# EAGLE library part GPS_NEO (library my-library)
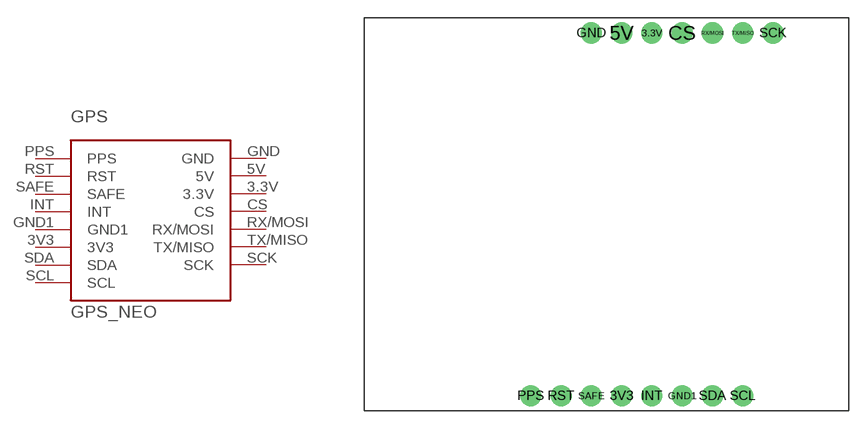
[diagram p0: symbol with the pads of GPS_NEO; footprint GPS_NEO]

Designator prefix GPS

## GPS_NEO  [GPS_NEO]
3.3V  3.3V
3V3  3V3
5V  5V
CS  CS
GND  GND
GND1  GND1
INT  INT
PPS  PPS
RST  RST
RX/MOSI  RX/MOSI
SAFE  SAFE
SCK  SCK
SCL  SCL
SDA  SDA
TX/MISO  TX/MISO

## Footprint GPS_NEO (pad centres in mm)
drill 1 pad 1.778: 3.3V 24.13,31.75; 3V3 21.59,1.27; 5V 21.59,31.75; CS 26.67,31.75; GND 19.05,31.75; GND1 26.67,1.27; INT 24.13,1.27; PPS 13.97,1.27; RST 16.51,1.27; RX/MOSI 29.21,31.75; SAFE 19.05,1.27; SCK 34.29,31.75; SCL 31.75,1.27; SDA 29.21,1.27; TX/MISO 31.75,31.75